# EAGLE library part MSP430F14* (library msp430)
Mixed Signal Microcontroller 12bit ADC, USART, no LCD
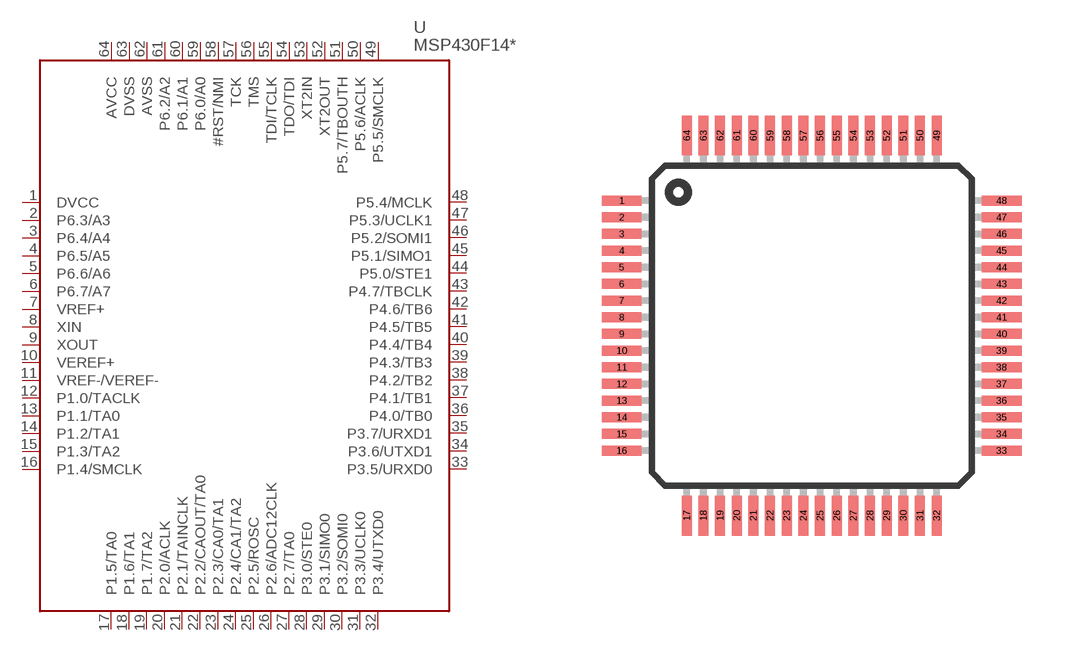
[diagram p5: symbol with the pads of S-PQFP64-G64; footprint S-PQFP64-G64]

Designator prefix U

## MSP430F147PM, MSP430F148PM, MSP430F149PM  [S-PQFP64-G64]
1  DVCC  pwr
2  P6.3/A3
3  P6.4/A4
4  P6.5/A5
5  P6.6/A6
6  P6.7/A7
7  VREF+  pas
8  XIN  pas
9  XOUT  pas
10  VEREF+  pas
11  VREF-/VEREF-  pas
12  P1.0/TACLK
13  P1.1/TA0
14  P1.2/TA1
15  P1.3/TA2
16  P1.4/SMCLK
17  P1.5/TA0
18  P1.6/TA1
19  P1.7/TA2
20  P2.0/ACLK
21  P2.1/TAINCLK
22  P2.2/CAOUT/TA0
23  P2.3/CA0/TA1
24  P2.4/CA1/TA2
25  P2.5/ROSC
26  P2.6/ADC12CLK
27  P2.7/TA0
28  P3.0/STE0
29  P3.1/SIMO0
30  P3.2/SOMI0
31  P3.3/UCLK0
32  P3.4/UTXD0
33  P3.5/URXD0
34  P3.6/UTXD1
35  P3.7/URXD1
36  P4.0/TB0
37  P4.1/TB1
38  P4.2/TB2
39  P4.3/TB3
40  P4.4/TB4
41  P4.5/TB5
42  P4.6/TB6
43  P4.7/TBCLK
44  P5.0/STE1
45  P5.1/SIMO1
46  P5.2/SOMI1
47  P5.3/UCLK1
48  P5.4/MCLK
49  P5.5/SMCLK
50  P5.6/ACLK
51  P5.7/TBOUTH
52  XT2OUT  pas
53  XT2IN  pas
54  TDO/TDI
55  TDI/TCLK  in
56  TMS  in
57  TCK  in
58  #RST/NMI  in
59  P6.0/A0
60  P6.1/A1
61  P6.2/A2
62  AVSS  pwr
63  DVSS  pwr
64  AVCC  pwr

## Footprint S-PQFP64-G64 (pad centres in mm)
smd 1.2 x 0.3: 1 -5.7,3.75; 2 -5.7,3.25; 3 -5.7,2.75; 4 -5.7,2.25; 5 -5.7,1.75; 6 -5.7,1.25; 7 -5.7,0.75; 8 -5.7,0.25; 9 -5.7,-0.25; 10 -5.7,-0.75; 11 -5.7,-1.25; 12 -5.7,-1.75; 13 -5.7,-2.25; 14 -5.7,-2.75; 15 -5.7,-3.25; 16 -5.7,-3.75; 33 5.7,-3.75; 34 5.7,-3.25; 35 5.7,-2.75; 36 5.7,-2.25; 37 5.7,-1.75; 38 5.7,-1.25; 39 5.7,-0.75; 40 5.7,-0.25; 41 5.7,0.25; 42 5.7,0.75; 43 5.7,1.25; 44 5.7,1.75; 45 5.7,2.25; 46 5.7,2.75; 47 5.7,3.25; 48 5.7,3.75
smd 0.3 x 1.2: 17 -3.75,-5.7; 18 -3.25,-5.7; 19 -2.75,-5.7; 20 -2.25,-5.7; 21 -1.75,-5.7; 22 -1.25,-5.7; 23 -0.75,-5.7; 24 -0.25,-5.7; 25 0.25,-5.7; 26 0.75,-5.7; 27 1.25,-5.7; 28 1.75,-5.7; 29 2.25,-5.7; 30 2.75,-5.7; 31 3.25,-5.7; 32 3.75,-5.7; 49 3.75,5.7; 50 3.25,5.7; 51 2.75,5.7; 52 2.25,5.7; 53 1.75,5.7; 54 1.25,5.7; 55 0.75,5.7; 56 0.25,5.7; 57 -0.25,5.7; 58 -0.75,5.7; 59 -1.25,5.7; 60 -1.75,5.7; 61 -2.25,5.7; 62 -2.75,5.7; 63 -3.25,5.7; 64 -3.75,5.7